# EAGLE library part TRAM-1-PCB (library Transputer)
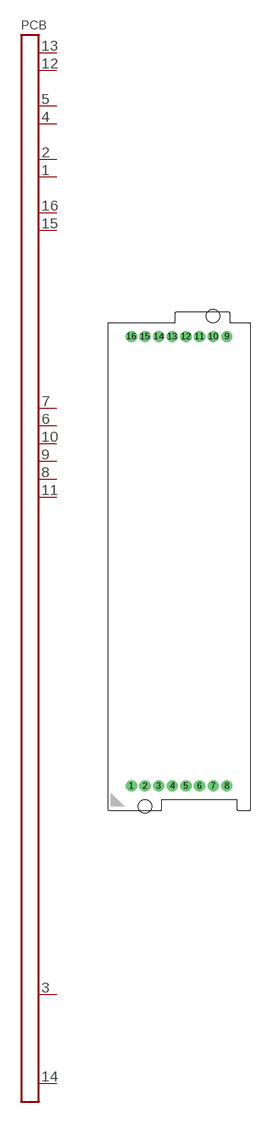
[diagram p14: symbol with the pads of TRAM-1-PCB; footprint TRAM-1-PCB]

Designator prefix PCB

## TRAM-1-PCB  [TRAM-1-PCB]
1  LINK2OUT  pas
2  LINK2IN  pas
3  VCC  pas
4  LINK1OUT  pas
5  LINK1IN  pas
6  LINKSPEEDA  pas
7  LINKSPEEDB  pas
8  CLOCKIN  pas
9  ANALYSE  pas
10  RESET  pas
11  NOTERROR  pas
12  LINK0OUT  pas
13  LINK0IN  pas
14  GND  pas
15  LINK3OUT  pas
16  LINK3IN  pas

## Footprint TRAM-1-PCB (pad centres in mm)
drill 1.4 pad 1.93: 1 -17.78,0; 2 -15.24,0; 3 -12.7,0; 4 -10.16,0; 5 -7.62,0; 6 -5.08,0; 7 -2.54,0; 8 0,0; 9 0,83.82; 10 -2.54,83.82; 11 -5.08,83.82; 12 -7.62,83.82; 13 -10.16,83.82; 14 -12.7,83.82; 15 -15.24,83.82; 16 -17.78,83.82
hole 2.5 at -15.24,-3.81
hole 2.5 at -2.54,87.63